# Altium footprint library Components - 22.08.24 - 16.41.PcbLib: 1 footprints
Each footprint in its own frame and in the unit in brackets; x right, y up, seen from the top. Pads: shape width x height; smd on the part's side, far side on the other; paste and mask are expansions set on the pad; w line width, h text height; cw(c..) or ccw(c..) is an arc to the next point about the centre after c.
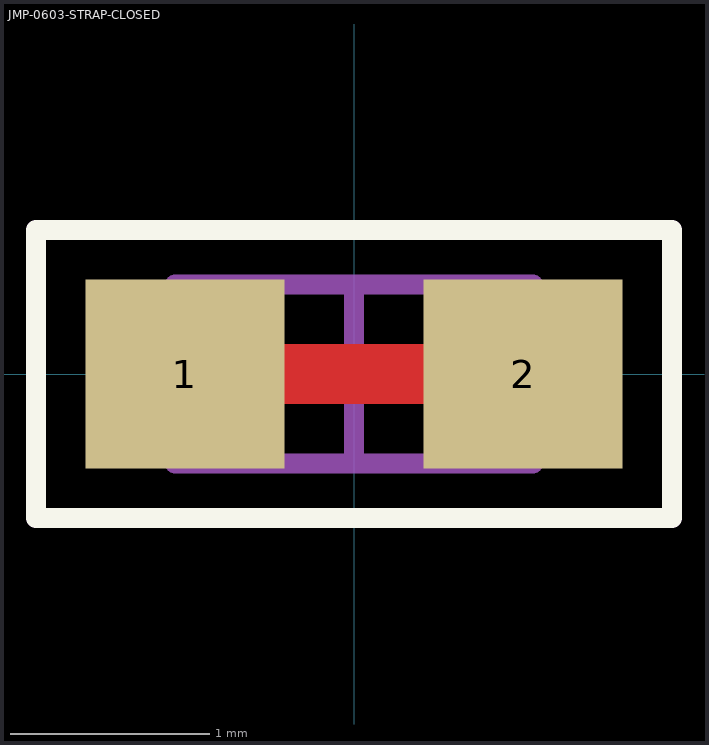
[diagram p0: the footprint, top view; thin cyan lines are the x and y axes]

## JMP-0603-STRAP-CLOSED [mm] "SMD Strap, 0603, Closed"
height 1.45
pads (2):
  rect 1x0.95 smd paste-1: 1(-0.85,0) 2(0.85,0)
Top Layer:
  rectangle: -0.45,-0.15 0.45,0.15
Top Overlay:
  lines w0.1: -1.6,-0.725 -1.6,0.725 1.6,0.725 1.6,-0.725 -1.6,-0.725
Top Solder:
  rectangle: -0.45,-0.25 0.45,0.26
Mechanical 13:
  lines w0.1: -0.9,-0.45 -0.9,0.45 0.9,0.45 0.9,-0.45 -0.9,-0.45
Mechanical 15:
  lines w0.1: -0.45,0 0.45,0 ; 0,-0.45 0,0.45 ; -1.6,-0.725 -1.6,0.725 1.6,0.725 1.6,-0.725 -1.6,-0.725
3D body "0603 SMD Resistor.step": height 0.3, standoff 0, extent -0.8,-0.4 0.8,0.4